# Altium footprint library SAMTEC_MUSB-05-X-AB-SM-A.PcbLib: 1 footprints
Each footprint in its own frame and in the unit in brackets; x right, y up, seen from the top. Pads: shape width x height; smd on the part's side, far side on the other; paste and mask are expansions set on the pad; w line width, h text height; cw(c..) or ccw(c..) is an arc to the next point about the centre after c.
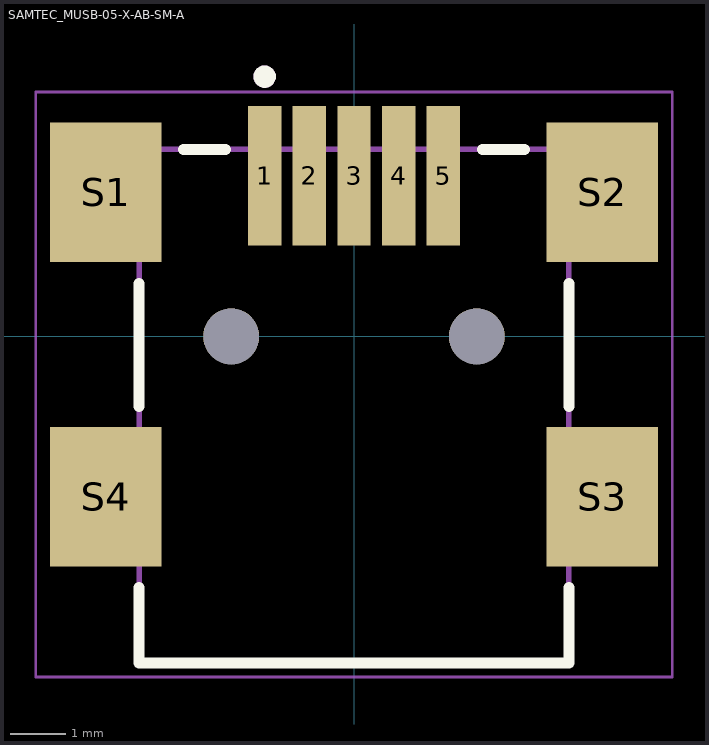
[diagram p0: the footprint, top view; thin cyan lines are the x and y axes]

## SAMTEC_MUSB-05-X-AB-SM-A [mm]
pads (11):
  rect 0.6x2.5 smd: 1(-1.6,2.88) 2(-0.8,2.88) 3(0,2.88) 4(0.8,2.88) 5(1.6,2.88)
  rect 2x2.5 smd: S1(-4.45,2.58) S2(4.45,2.58) S3(4.45,-2.87) S4(-4.45,-2.87)
  round 1 hole 1 unplated: ""(-2.2,0) ""(2.2,0)
Top Overlay:
  circle w0.2: c-1.6,4.653 r0.1
  lines w0.2: -3.85,-4.5 -3.85,-5.85 3.85,-5.85 3.85,-4.5 ; -3.85,-1.25 -3.85,0.95 ; -3.05,3.35 -2.3,3.35 ; 2.3,3.35 3.05,3.35 ; 3.85,-1.25 3.85,0.95
Mechanical 13:
  circle w0.2: c-1.6,4.653 r0.1
  lines w0.1: -3.85,-5.85 3.85,-5.85 3.85,3.35 -3.85,3.35 -3.85,-5.85
Mechanical 15:
  lines w0.05: -5.7,-6.1 5.7,-6.1 5.7,4.38 -5.7,4.38 -5.7,-6.1